# EAGLE library part M06 (library Connectors)
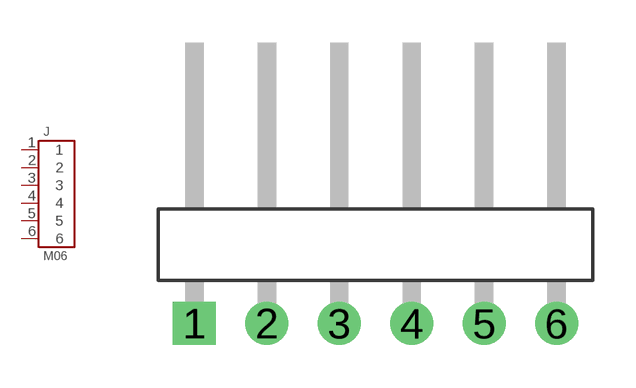
[diagram p28: symbol with the pads of M06-PTH-H; footprint M06-PTH-H]

Designator prefix J

## M06-PTH-H  [M06-PTH-H]
1  1
2  2
3  3
4  4
5  5
6  6

## Footprint M06-PTH-H (pad centres in mm)
drill 1 square: 1 0,0
drill 1: 2 2.54,0; 3 5.08,0; 4 7.62,0; 5 10.16,0; 6 12.7,0